# EAGLE library part KEYPAD4X4 (library Fuckboiz)
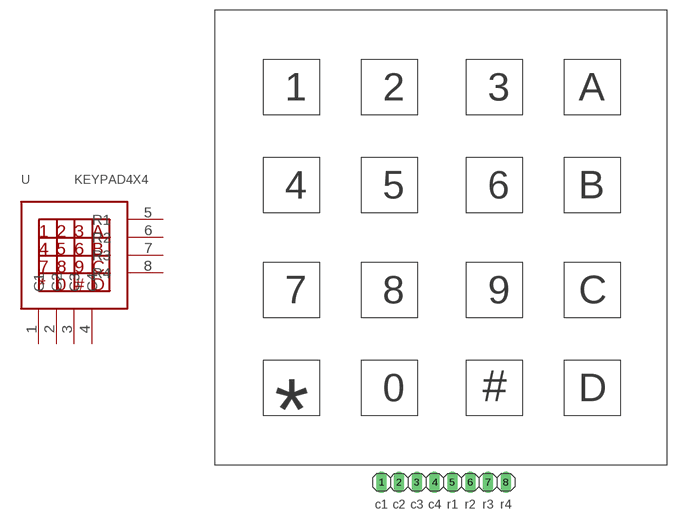
[diagram p7: symbol with the pads of KEYPAD4X4; footprint KEYPAD4X4]

Designator prefix -

## KEYPAD4X4  [KEYPAD4X4]
1  C1
2  C2
3  C3
4  C4
5  R1
6  R2
7  R3
8  R4

## Footprint KEYPAD4X4 (pad centres in mm)
drill 1.016 long: 1 23.81,-2.54; 2 26.35,-2.54; 3 28.89,-2.54; 4 31.43,-2.54; 5 33.97,-2.54; 6 36.51,-2.54; 7 39.05,-2.54; 8 41.59,-2.54